# Altium footprint library RES_WSKJ.PcbLib: 18 footprints (part 1 of 2)
Each footprint in its own frame and in the unit in brackets; x right, y up, seen from the top. Pads: shape width x height; smd on the part's side, far side on the other; paste and mask are expansions set on the pad; w line width, h text height; cw(c..) or ccw(c..) is an arc to the next point about the centre after c.
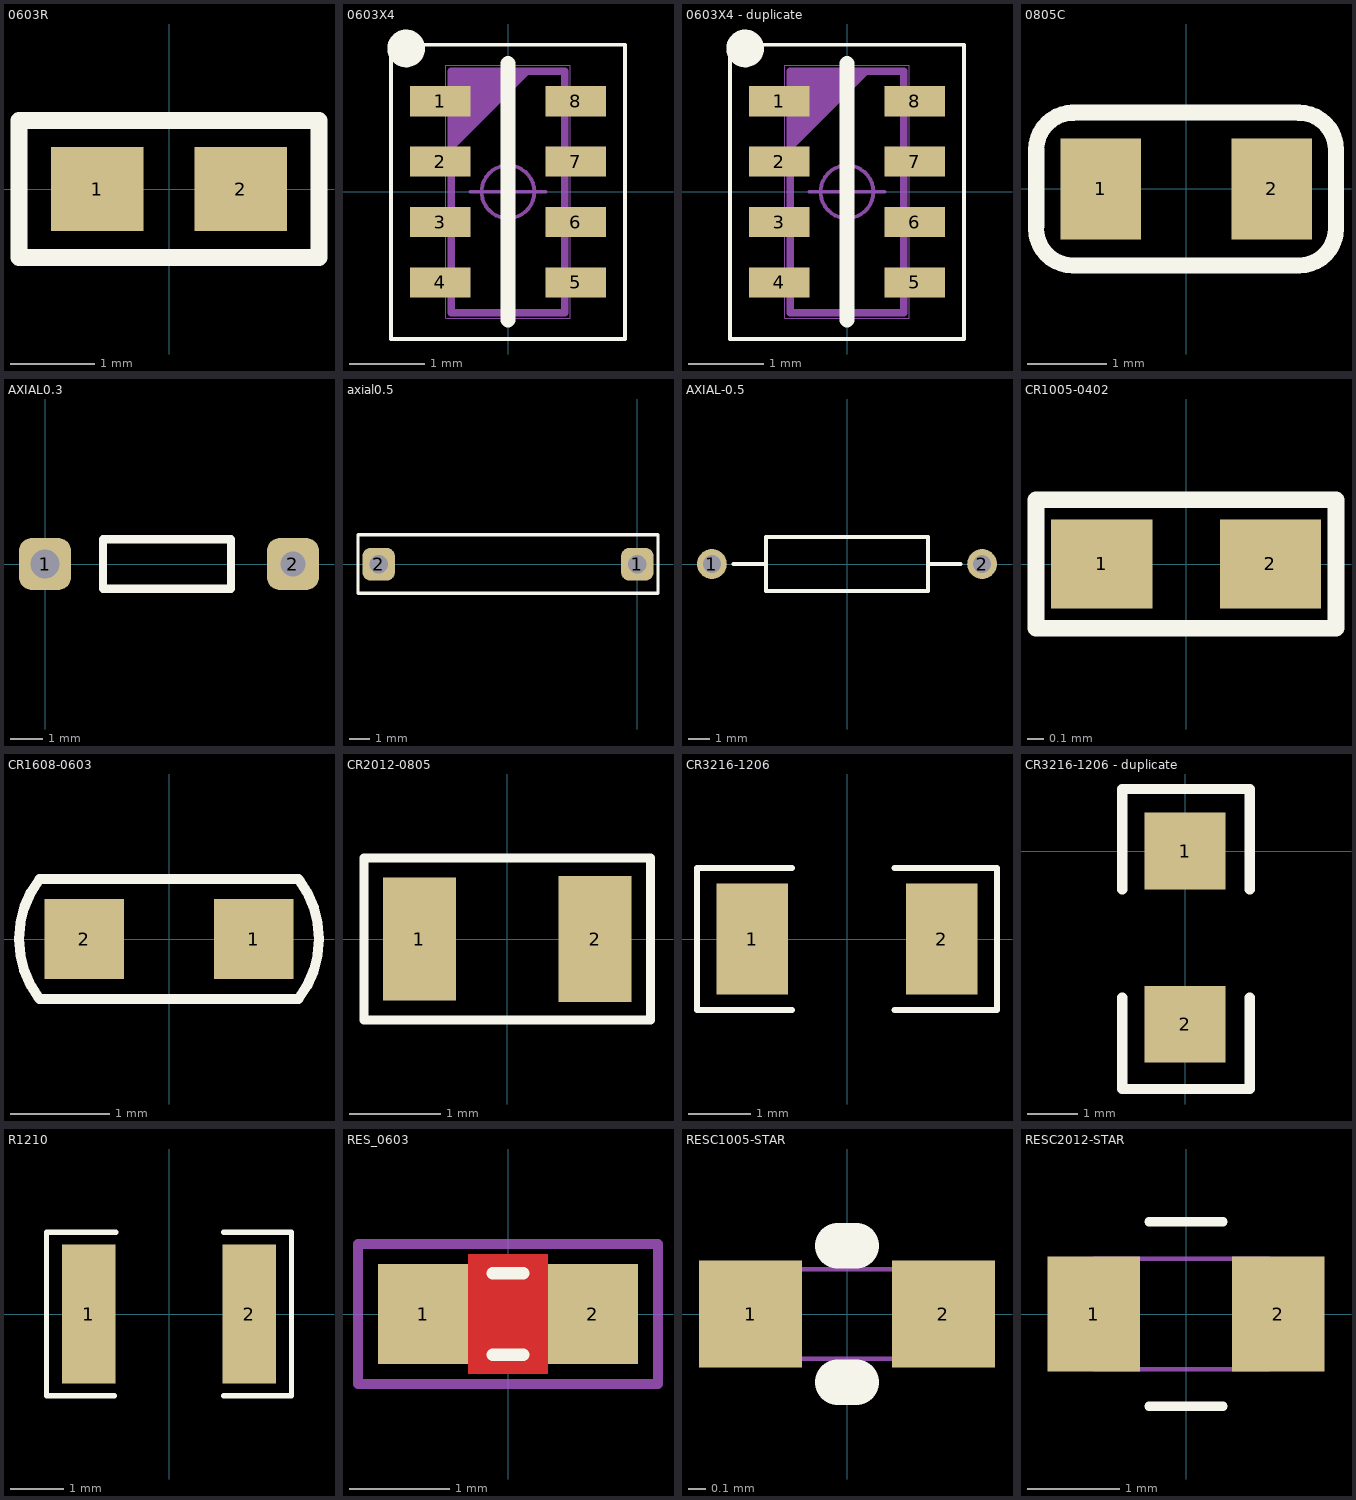
[diagram p0: the footprints below, top view; thin cyan lines are the x and y axes]

## 0603R [mm]
pads (2):
  rect 1.1x1 smd: 1(-0.85,0) 2(0.85,0)
Top Overlay:
  lines w0.203: -1.778,-0.813 1.778,-0.813 1.778,0.813 -1.778,0.813 -1.778,-0.813

## 0603X4 [mm]
pads (8):
  rect 0.8x0.4 smd: 1(-0.9,1.2) 2(-0.9,0.4) 3(-0.9,-0.4) 4(-0.9,-1.2) 5(0.9,-1.2) 6(0.9,-0.4) 7(0.9,0.4) 8(0.9,1.2)
Top Overlay:
  circle w0.25: c-1.35,1.9 r0.125
  lines w0.05: -1.55,-1.95 1.55,-1.95 1.55,1.95 -1.55,1.95 -1.55,-1.95
  lines w0.2: 0,-1.7 0,1.7
Mechanical 1:
  lines w0.1: -0.75,-1.6 0.75,-1.6 0.75,1.6 -0.75,1.6 -0.75,-1.6 ; -0.75,0.6 0.25,1.6 -0.75,0.6 ; -0.75,0.7 0.15,1.6 -0.75,0.7 ; -0.75,0.8 0.05,1.6 -0.75,0.8 ; -0.75,0.9 -0.05,1.6 -0.75,0.9 ; -0.75,1 -0.15,1.6 -0.75,1 ; -0.75,1.1 -0.25,1.6 -0.75,1.1 ; -0.75,1.2 -0.35,1.6 -0.75,1.2 ; -0.75,1.3 -0.45,1.6 -0.75,1.3 ; -0.75,1.4 -0.55,1.6 -0.75,1.4 ; -0.75,1.5 -0.65,1.6 -0.75,1.5
  text "R1" at 0.33,-0.365 h0.55
Mechanical 16:
  circle w0.05: c0,0 r0.35
  lines w0.001: -0.825,-1.675 0.825,-1.675 0.825,1.675 -0.825,1.675 -0.825,-1.675
  lines w0.05: -0.5,0 0.5,0 ; 0,-0.5 0,0.5
3D body: height 0.5, standoff 0, extent -0.8,-1.6 0.8,1.6

## 0603X4 - duplicate [mm]
pads (8):
  rect 0.8x0.4 smd: 1(-0.9,1.2) 2(-0.9,0.4) 3(-0.9,-0.4) 4(-0.9,-1.2) 5(0.9,-1.2) 6(0.9,-0.4) 7(0.9,0.4) 8(0.9,1.2)
Top Overlay:
  circle w0.25: c-1.35,1.9 r0.125
  lines w0.05: -1.55,-1.95 -1.55,1.95 1.55,1.95 1.55,-1.95 -1.55,-1.95
  lines w0.2: 0,-1.7 0,1.7
Mechanical 1:
  lines w0.1: -0.75,-1.6 -0.75,1.6 0.75,1.6 0.75,-1.6 -0.75,-1.6 ; -0.75,0.6 0.25,1.6 -0.75,0.6 ; -0.75,0.7 0.15,1.6 -0.75,0.7 ; -0.75,0.8 0.05,1.6 -0.75,0.8 ; -0.75,0.9 -0.05,1.6 -0.75,0.9 ; -0.75,1 -0.15,1.6 -0.75,1 ; -0.75,1.1 -0.25,1.6 -0.75,1.1 ; -0.75,1.2 -0.35,1.6 -0.75,1.2 ; -0.75,1.3 -0.45,1.6 -0.75,1.3 ; -0.75,1.4 -0.55,1.6 -0.75,1.4 ; -0.75,1.5 -0.65,1.6 -0.75,1.5
  text "R1" at 0.33,-0.365 h0.55
Mechanical 16:
  circle w0.05: c0,0 r0.35
  lines w0.001: -0.825,-1.675 -0.825,1.675 0.825,1.675 0.825,-1.675 -0.825,-1.675
  lines w0.05: -0.5,0 0.5,0 ; 0,-0.5 0,0.5
3D body: height 0.5, standoff 0, extent -0.8,-1.6 0.8,1.6

## 0805C [mil]
height 39.37
pads (2):
  rect 40x50 smd: 1(-42.5,0) 2(42.5,0)
Top Overlay:
  lines w8: -74.61,-19.59 ccw(c-56.2,-19.59) -56.2,-38 ; -74.5,-18.5 -74.5,18.5 ; -74.5,19.5 cw(c-56.09,19.5) -56.09,37.91 ; -56.62,38 55.59,38 ; -55.2,-38 55.61,-38 ; 56.09,-38 ccw(c56.09,-19.59) 74.5,-19.59 ; 56.09,37.91 cw(c56.09,19.5) 74.5,19.5 ; 74.5,-18.59 74.5,18.5
3D body: height 30.39, standoff -0.39, extent -39.35,-24.61 39.39,24.61

## AXIAL0.3 [mm]
pads (2):
  rrect50% 1.6x1.6 hole 0.889: 1(0,0)
  rrect50% 1.6x1.6 hole 0.762: 2(7.62,0)
Top Overlay:
  lines w0.254: 1.778,-0.762 1.778,0.762 5.715,0.762 5.715,-0.762 1.778,-0.762
3D body: height 2.01, standoff -1.5, extent -0.229,-0.946 7.899,0.997

## axial0.5 [mm]
pads (2):
  rrect50% 1.6x1.6 hole 0.9: 1(0,0) 2(-12.7,0)
Top Overlay:
  lines w0.152: -13.716,-1.422 -13.716,1.448 1.016,1.448 1.016,-1.422 -13.716,-1.422
3D body: height 4.6, standoff 0, extent -13.081,-1.429 0.381,1.429

## AXIAL-0.5 [mm] "Axial Device, Thru-Hole; 2 Leads; 0.5 in Pin Spacing"
height 2.54
pads (2):
  round 1.4 hole 0.85: 1(-6.35,0) 2(6.35,0)
Top Overlay:
  lines w0.2: -5.334,0 -3.81,0 ; 3.81,0 5.334,0 ; -3.81,-1.27 -3.81,1.27 3.81,1.27 3.81,-1.27 -3.81,-1.27

## CR1005-0402 [mm]
height 2.54
pads (2):
  rect 0.6x0.53 smd: 1(-0.5,0) 2(0.5,0)
Top Overlay:
  lines w0.1: -0.889,-0.381 -0.889,0.381 -0.254,0.381 0.889,0.381 0.889,-0.381 -0.889,-0.381
3D body: height 0.38, standoff 0, extent -0.5,-0.25 0.5,0.25

## CR1608-0603 [mm]
height 2.54
pads (2):
  rect 0.8x0.8 smd: 1(0.85,0) 2(-0.85,0)
Top Overlay:
  lines w0.1: -1.3,0.6 1.3,0.6 cw(c0.525,0) 1.299,-0.601 ; -1.299,0.601 ccw(c-0.525,0) -1.3,-0.599 1.3,-0.6
3D body: height 0.3, standoff 0, extent -0.8,-0.4 0.8,0.4

## CR2012-0805 [mm]
height 2.54
pads (2):
  rect 0.8x1.35 smd: 1(-0.965,0)
  rect 0.8x1.385 smd: 2(0.965,0)
Top Overlay:
  lines w0.1: -1.575,-0.889 -1.575,0.889 1.575,0.889 1.575,-0.889 -1.575,-0.889
3D body: height 0.5, standoff 0, extent -1,-0.584 1,0.616

## CR3216-1206 [mil]
height 100
pads (2):
  rect 45x70 smd: 1(-60,0) 2(60,0)
Top Overlay:
  lines w3.94: -35,-45 -95,-45 -95,45 -35,45 ; 30,-45 95,-45 95,45 30,45
3D body: height 23.62, standoff 0, extent -62.99,-31.49 63,31.5

## CR3216-1206 - duplicate [mil]
pads (2):
  rect 62.99x60 smd: 1(0,0) 2(0,-135)
Top Overlay:
  lines w7.87: -49,-114 -49,-185.5 50.5,-185.5 50.5,-114 ; -49,-30 -49,48.5 50.5,48.5 50.5,-30
3D body: height 60.1, standoff 0, extent -31.5,-153.75 31.5,3.75

## R1210 [mm]
pads (2):
  rect 1x2.6 smd: 1(-1.5,0) 2(1.5,0)
Top Overlay:
  lines w0.1: -1.016,-1.524 -2.286,-1.524 -2.286,1.524 -0.991,1.524 ; 1.016,-1.524 2.286,-1.524 2.286,1.524 1.016,1.524
3D body: height 0.47, standoff 0, extent -1.55,-1.301 1.55,1.301

## RES_0603 [mm]
height 0.8
pads (2):
  rect 0.9x1 smd: 1(-0.85,0) 2(0.85,0)
Top Layer:
  pour cut-out: -0.4,0.6 0.4,0.6 0.4,-0.6 -0.4,-0.6
Top Overlay:
  lines w0.127: -0.152,-0.406 0.152,-0.406 ; -0.152,0.406 0.152,0.406
Mechanical 13:
  lines w0.05: -0.875,-0.475 -0.875,0.475 -0.475,0.475 -0.475,-0.475 -0.875,-0.475 ; -0.475,-0.474 0.475,-0.474 -0.475,-0.474 ; -0.475,0.474 0.475,0.474 -0.475,0.474 ; 0.475,-0.475 0.875,-0.475 0.875,0.475 0.475,0.475 0.475,-0.475
Mechanical 14:
  lines w0.1: -1.5,-0.7 1.5,-0.7 1.5,0.7 -1.5,0.7 -1.5,-0.7
3D body: height 0.54, standoff -0.01, extent -0.875,-0.475 0.875,0.475

## RESC1005-STAR [mm]
pads (2):
  rect 0.575x0.6 smd: 1(-0.538,0) 2(0.538,0)
Top Overlay:
  lines w0.254: -0.051,-0.381 0.051,-0.381 ; -0.051,0.381 0.051,0.381
Mechanical 7:
  lines w0.025: -0.5,-0.25 0.5,-0.25 0.5,0.25 -0.5,0.25 -0.5,-0.25
  text ".Comment" at -0.475,-0.2 h0.14
  text ".Designator" at -0.475,0.075 h0.14
3D body: height 0.1, standoff 0, extent 0.387,-0.251 0.716,0.256
3D body: height 0.1, standoff 0, extent -0.705,-0.251 -0.326,0.256
3D body: height 0.38, standoff 0, extent -0.5,-0.25 0.5,0.25

## RESC2012-STAR [mm]
pads (2):
  rect 1x1.25 smd: 1(-1,0) 2(1,0)
Top Overlay:
  lines w0.1: -0.4,-1 0.4,-1 ; -0.4,1 0.4,1
Mechanical 7:
  lines w0.05: -1,-0.6 -1,0.6 0.9,0.6 0.9,-0.6 -1,-0.6
3D body: height 0.5, standoff 0, extent -1,-0.6 1,0.6
3D body: height 0.25, standoff 0, extent -0.576,-0.544 0.611,0.565
3D body: height 0.1, standoff 0, extent 0.613,-0.535 1.069,0.565
3D body: height 0.1, standoff 0, extent -1.031,-0.535 -0.576,0.565